# EAGLE library part GENERIC_4X (library be_opamp_comparator)
edited: Mario Blunk / Blunk electronic
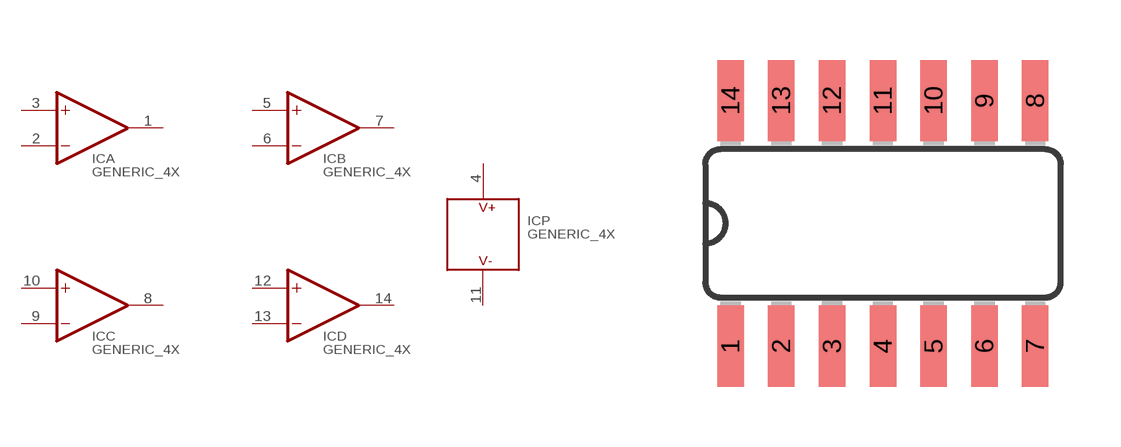
[diagram p1: symbol with the pads of S_SO14; footprint S_SO14]

Designator prefix IC; gates A=GENERIC B=GENERIC C=GENERIC D=GENERIC P=PWR-1

## GENERIC_4X_S_SO14 (BOM: YES; COMMISSIONED: 2016-11-16; PART_CODE_BEL: IC_PAC_S_SO14_VAL_)  [S_SO14]
1  A:OUT  out
2  A:-IN  in
3  A:+IN  in
4  P:V+  pwr
5  B:+IN  in
6  B:-IN  in
7  B:OUT  out
8  C:OUT  out
9  C:-IN  in
10  C:+IN  in
11  P:V-  pwr
12  D:+IN  in
13  D:-IN  in
14  D:OUT  out

## Footprint S_SO14 (pad centres in mm)
edited: Mario Blunk / Blunk electronic date: 2013-05-06
smd 0.66 x 2.032: 1 -3.81,-3.073; 2 -2.54,-3.073; 3 -1.27,-3.073; 4 0,-3.073; 5 1.27,-3.073; 6 2.54,-3.073; 7 3.81,-3.073; 8 3.81,3.073; 9 2.54,3.073; 10 1.27,3.073; 11 0,3.073; 12 -1.27,3.073; 13 -2.54,3.073; 14 -3.81,3.073